# Altium schematic symbol library LED_BLUE.Schlib: 1 symbol
Pins are listed as number, name and electrical type; pins without a type are passive.

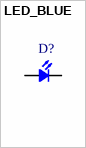
[diagram p0: symbol LED_BLUE]

## LED_BLUE
designator D?
pins: A, C